# EAGLE library part SY88932L (library yapo)
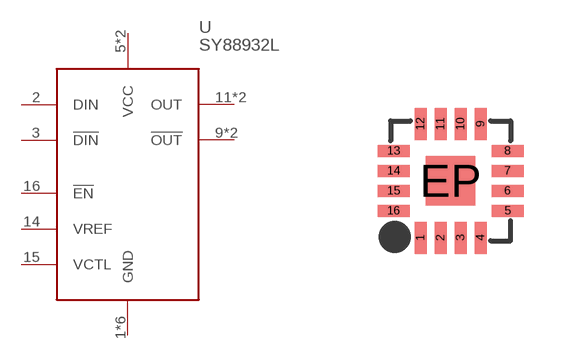
[diagram p56: symbol with the pads of TQFN16; footprint TQFN16]

Designator prefix -

## SY88932L  [TQFN16]
1  GND
2  DIN
3  !DIN!
4  GND
5  VCC
6  VCC
7  GND
8  GND
9  !OUT!
10  !OUT!
11  OUT
12  OUT
13  GND
14  VREF
15  VCTL
16  !EN!
EP  GND

## Footprint TQFN16 (pad centres in mm)
smd 0.3 x 0.8: 1 -0.75,-1.425; 2 -0.25,-1.425; 3 0.25,-1.425; 4 0.75,-1.425; 9 0.75,1.425; 10 0.25,1.425; 11 -0.25,1.425; 12 -0.75,1.425
smd 0.8 x 0.3: 5 1.425,-0.75; 6 1.425,-0.25; 7 1.425,0.25; 8 1.425,0.75; 13 -1.425,0.75; 14 -1.425,0.25; 15 -1.425,-0.25; 16 -1.425,-0.75
smd 1.23 x 1.23: EP 0,0